# EAGLE library part FT232RQ (library FaBo-USB)
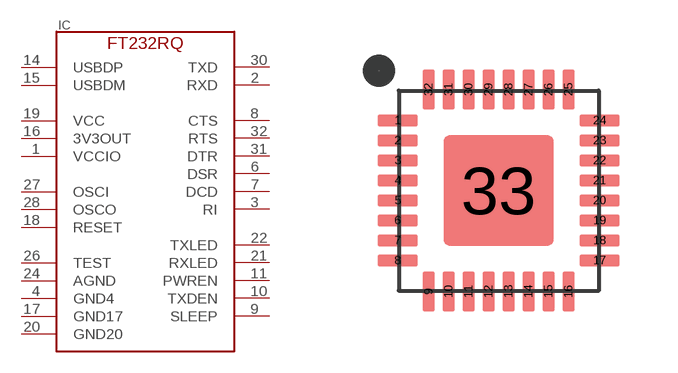
[diagram p1: symbol with the pads of QFN-32_FT232RQ; footprint QFN-32_FT232RQ]

Designator prefix IC

## FT232RQ-QFN-32  [QFN-32_FT232RQ]
1  VCCIO  pwr
2  RXD  in
3  RI  in
4  GND4  pwr
6  DSR  in
7  DCD  in
8  CTS  in
9  SLEEP  in
10  TXDEN  in
11  PWREN  in
14  USBDP
15  USBDM
16  3V3OUT  out
17  GND17  pwr
18  RESET  in
19  VCC  pwr
20  GND20  pwr
21  RXLED  in
22  TXLED  in
24  AGND  pwr
26  TEST  in
27  OSCI  in
28  OSCO  out
30  TXD  out
31  DTR  out
32  RTS  out

## Footprint QFN-32_FT232RQ (pad centres in mm)
smd 1 x 0.3: 1 -2.525,1.75; 2 -2.525,1.25; 3 -2.525,0.75; 4 -2.525,0.25; 5 -2.525,-0.25; 6 -2.525,-0.75; 7 -2.525,-1.25; 8 -2.525,-1.75; 17 2.525,-1.75; 18 2.525,-1.25; 19 2.525,-0.75; 20 2.525,-0.25; 21 2.525,0.25; 22 2.525,0.75; 23 2.525,1.25; 24 2.525,1.75
smd 0.3 x 1: 9 -1.75,-2.525; 10 -1.25,-2.525; 11 -0.75,-2.525; 12 -0.25,-2.525; 13 0.25,-2.525; 14 0.75,-2.525; 15 1.25,-2.525; 16 1.75,-2.525; 25 1.75,2.525; 26 1.25,2.525; 27 0.75,2.525; 28 0.25,2.525; 29 -0.25,2.525; 30 -0.75,2.525; 31 -1.25,2.525; 32 -1.75,2.525
smd 2.75 x 2.75: 33 0,0